# Altium schematic symbol library КУН038.SchLib: 1 symbol
Pins are listed as number, name and electrical type; pins without a type are passive.

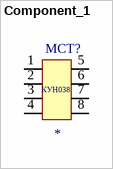
[diagram p0: symbol Component_1]

## Component_1
designator MCT?
footprint КУН038
pins: 1, 2, 3, 4, 5, 6, 7, 8
text: КУН038